# Altium schematic symbol library USB.SchLib: 8 symbols
Pins are listed as number, name and electrical type; pins without a type are passive.

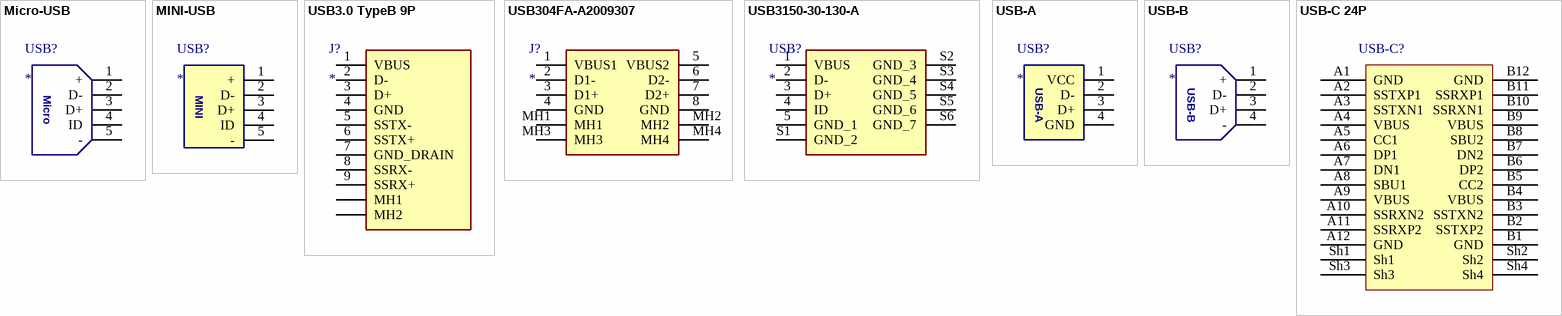
[diagram p0: symbols Micro-USB to USB-C 24P]

## Micro-USB
designator USB?
footprint USB-MICRO_A
footprint USB-MICRO_D
footprint USB-micro_B
footprint USB-micro_C
pins: 1 +, 2 D-, 3 D+, 4 ID, 5 -
text: Micro

## MINI-USB
designator USB?
footprint USB-MINI-A
pins: 1 +, 2 D-, 3 D+, 4 ID, 5 -
text: MINI

## USB3.0 TypeB 9P
designator J?
Connector; Manufacturer_Name: Pulse; Manufacturer_Part_Number: E8199-030-01; Description: USB Connectors USB3.0 TypeB Rec SuperSpeed 9P RA; Datasheet Link: https://productfinder.pulseeng.com/doc_type/WEB301/doc_num/E8199-030-01/doc_part/E8199-030-01.pdf; Height: 12.9mm; Mouser Part Number: 673-E8199-030-01; Mouser Price/Stock: https://www.mouser.co.uk/ProductDetail/Pulse-Electronics/E8199-030-01?qs=fi7yB2oewZks%2FMZaaPk%2FJA%3D%3D; Arrow Part Number: E8199-030-01; Arrow Price/Stock: https://www.arrow.com/en/products/e8199-030-01/pulse-electronics-corporation
footprint USB3.0_B_90 (USB3.0 B型母座 蓝色 铜壳 弯脚 90度)
pins: 1 VBUS, 2 D-, 3 D+, 4 GND, 5 SSTX-, 6 SSTX+, 7 GND_DRAIN, 8 SSRX-, 9 SSRX+, MH1, MH2

## USB304FA-A2009307
designator J?
USB A/F 双层 USBConnector; Manufacturer_Name: ATOM; Manufacturer_Part_Number: USB304FA-A2009307; Datasheet Link: http://www.asia-atom.com/downloadRepository/8422aaaf-2a97-4da6-8963-74fc8641f0ac.pdf; Height: 15.55mm
footprint USB304FAA2009307
pins: 1 VBUS1, 2 D1-, 3 D1+, 4 GND, 5 VBUS2, 6 D2-, 7 D2+, 8 GND, MH1, MH2, MH3, MH4

## USB3150-30-130-A
designator USB?
Connector 直插USB 公头; Manufacturer_Name: GLOBAL CONNECTOR TECHNOLOGY; Manufacturer_Part_Number: USB3150-30-130-A; Datasheet Link: https://gct.co/files/drawings/usb3150.pdf; Height: 7.23mm
footprint USB315030130A
pins: 1 VBUS, 2 D-, 3 D+, 4 ID, 5 GND_1, S1 GND_2, S2 GND_3, S3 GND_4, S4 GND_5, S5 GND_6, S6 GND_7

## USB-A
designator USB?
footprint USB-A/S_A
footprint USB-A/S_B
footprint USB-A/S_C
footprint USB-A/S_D
footprint USB-A/S_E
footprint USB-A/S_F
footprint USB_A/P_A
footprint USB_A/P_B
footprint USB_A/F-SMT-10 (USB A/F SMT 短体后两脚无边)
footprint USB_A/F-T/HSMT (USB A/F T/H SMT)
footprint USB_A/F-SMT (U-A-24SS-Y-1)
pins: 1 VCC, 2 D-, 3 D+, 4 GND

## USB-B
designator USB?
footprint USB-B/S_A
pins: 1 +, 2 D-, 3 D+, 4 -

## USB-C 24P
designator USB-C?
USB-C 24P
footprint USB-TypeC
pins: A1 GND, A2 SSTXP1, A3 SSTXN1, A4 VBUS, A5 CC1, A6 DP1, A7 DN1, A8 SBU1, A9 VBUS, A10 SSRXN2, A11 SSRXP2, A12 GND, B1 GND, B2 SSTXP2, B3 SSTXN2, B4 VBUS, B5 CC2, B6 DP2, B7 DN2, B8 SBU2, B9 VBUS, B10 SSRXN1, B11 SSRXP1, B12 GND, Sh1, Sh2, Sh3, Sh4